# Altium footprint library Relay_mini_MPR-S-112-A.PcbLib: 1 footprints
Each footprint in its own frame and in the unit in brackets; x right, y up, seen from the top. Pads: shape width x height; smd on the part's side, far side on the other; paste and mask are expansions set on the pad; w line width, h text height; cw(c..) or ccw(c..) is an arc to the next point about the centre after c.
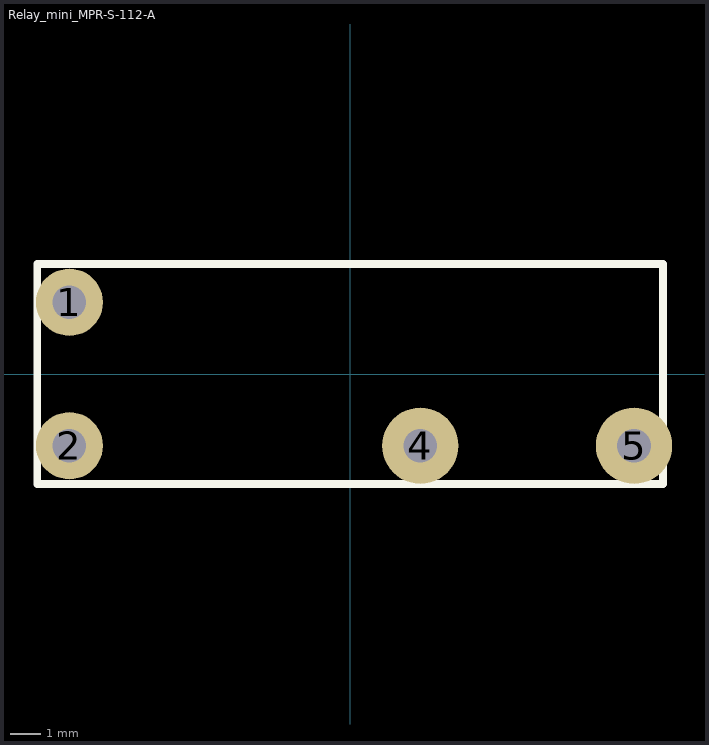
[diagram p0: the footprint, top view; thin cyan lines are the x and y axes]

## Relay_mini_MPR-S-112-A [mm] "5A mini relay"
height 16
pads (4):
  round 2.2 hole 1.1: 1(-9.2,2.35) 2(-9.2,-2.35)
  round 2.5 hole 1.1: 4(2.3,-2.35) 5(9.3,-2.35)
Top Overlay:
  lines w0.254: -10.25,-3.6 10.25,-3.6 10.25,3.6 -10.25,3.6 -10.25,-3.6
3D body "Relay_mini.STEP": height 14.9, standoff -3.4, extent -10.25,-3.6 10.25,3.6